# EAGLE library part U440 (library transistors)
U440 Dual N-channel JFET (Siliconix) -25V Ugs, 20mA Id, -6V Ugsoff
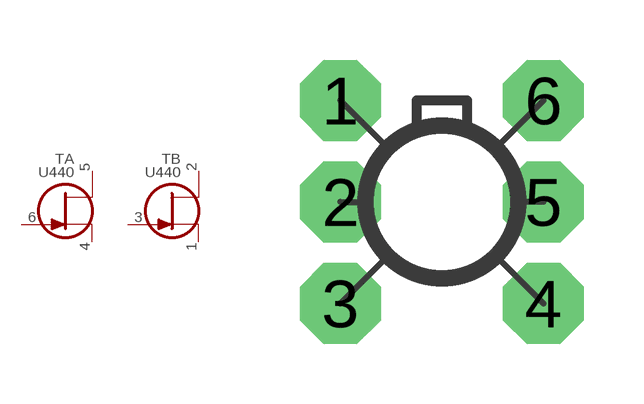
[diagram p0: symbol with the pads of TO71; footprint TO71]

Designator prefix T; gates A=TNJFET B=TNJFET

## U440  [TO71]
1  B:S
2  B:D
3  B:G
4  A:S
5  A:D
6  A:G

## Footprint TO71 (pad centres in mm)
TO-71 Metal can package, 6 pins
drill 0.813 pad 2.032 octagon: 1 0,0; 2 0,-2.54; 3 0,-5.08; 4 5.08,-5.08; 5 5.08,-2.54; 6 5.08,0